# Altium schematic symbol library Res.Schlib: 1 symbol
Pins are listed as number, name and electrical type; pins without a type are passive.

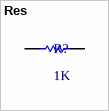
[diagram p0: symbol Res]

## Res
designator R?, comment 1K
Resistor; Published: 8-Jun-2000; LatestRevisionDate: 29-May-2009; LatestRevisionNote: IPC-7351 Footprint Added.; PackageReference: J1-0603; Publisher: Altium Limited; PackageDescription: Chip Resistor
footprint RESC4817X04N (Chip Resistor, 2-Leads, Body 4/80x1/70mm, IPC Medium Density-Design:Abbas Basereh)
footprint RES0805 (Chip Resistor, 2-Leads, Body 2/00x1/25mm, IPC Medium Density DESIGNER:ABBAS BASEREH)
footprint RES1206 (Chip Resistor, 2-Leads, Body 3/20x1/60mm, IPC Medium Density DESIGNER:ABBAS BASEREH)
footprint ResVertical
footprint RES-(2/1)
footprint RESADV508-1670X520 (Resistor, Axial, Vertical Mount, Lead spacing 5.08 mm - Body Lengh 16.7mm X Body Diameter 5.2mm)
pins: 1, 2